# Altium footprint library QFN50P300X300X100-17T180X180L.PcbLib: 1 footprints
Each footprint in its own frame and in the unit in brackets; x right, y up, seen from the top. Pads: shape width x height; smd on the part's side, far side on the other; paste and mask are expansions set on the pad; w line width, h text height; cw(c..) or ccw(c..) is an arc to the next point about the centre after c.
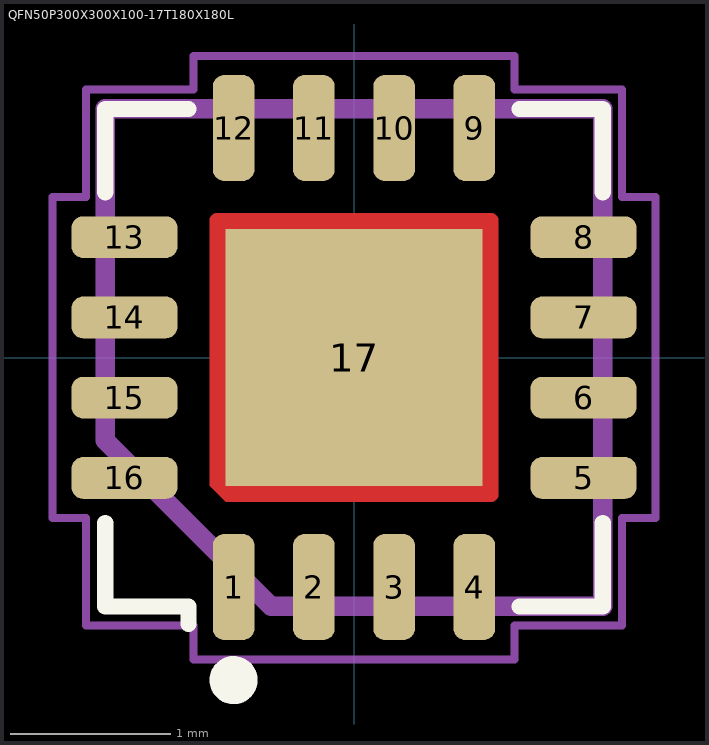
[diagram p0: the footprint, top view; thin cyan lines are the x and y axes]

## QFN50P300X300X100-17T180X180L [mm] "Quad Flat No-Lead (QFN with Tab), 0.50 mm pitch; square, 4 pin X 4 pin, 3.00 mm L X 3.00 mm W X 1.00 mm H body"
height 1
pads (17):
  rrect54% 0.26x0.66 smd: 1(-0.75,-1.43) 2(-0.25,-1.43) 3(0.25,-1.43) 4(0.75,-1.43) 9(0.75,1.43) 10(0.25,1.43) 11(-0.25,1.43) 12(-0.75,1.43)
  rrect54% 0.66x0.26 smd: 5(1.43,-0.75) 6(1.43,-0.25) 7(1.43,0.25) 8(1.43,0.75) 13(-1.43,0.75) 14(-1.43,0.25) 15(-1.43,-0.25) 16(-1.43,-0.75)
  rect 1.6x1.6 smd paste-1.6 mask+0: 17(0,0)
Top Layer:
  region: 0.9,0 0.9,-0.85 0.899,-0.858 0.898,-0.865 0.895,-0.873 0.891,-0.879 0.885,-0.885 0.879,-0.891 0.873,-0.895 0.865,-0.898 0.858,-0.899 -0.8,-0.9 -0.9,-0.8 -0.9,0.85 -0.899,0.858 -0.898,0.865 -0.895,0.873 -0.891,0.879 -0.885,0.885 -0.879,0.891 -0.873,0.895 -0.865,0.898 -0.858,0.899 0.85,0.9 0.858,0.899 0.865,0.898 0.873,0.895 0.879,0.891 0.885,0.885 0.891,0.879 0.895,0.873 0.898,0.865 0.899,0.858 0.9,0.85
Top Overlay:
  circle w0.15: c-0.75,-2.01 r0.075
  lines w0.1: -1.55,-1.03 -1.55,-1.55 -1.03,-1.55 -1.03,-1.66 ; -1.55,1.03 -1.55,1.55 -1.03,1.55 ; 1.03,-1.55 1.55,-1.55 1.55,-1.03 ; 1.03,1.55 1.55,1.55 1.55,1.03
Top Paste:
  region: -0.09,0.09 -0.73,0.09 -0.73,0.73 -0.09,0.73
  region: -0.09,-0.73 -0.73,-0.73 -0.73,-0.09 -0.09,-0.09
  region: 0.73,0.09 0.09,0.09 0.09,0.73 0.73,0.73
  region: 0.73,-0.73 0.09,-0.73 0.09,-0.09 0.73,-0.09
Top Solder:
  region: 0.9,0 0.9,-0.85 0.899,-0.858 0.898,-0.865 0.895,-0.873 0.891,-0.879 0.885,-0.885 0.879,-0.891 0.873,-0.895 0.865,-0.898 0.858,-0.899 -0.8,-0.9 -0.9,-0.8 -0.9,0.85 -0.899,0.858 -0.898,0.865 -0.895,0.873 -0.891,0.879 -0.885,0.885 -0.879,0.891 -0.873,0.895 -0.865,0.898 -0.858,0.899 0.85,0.9 0.858,0.899 0.865,0.898 0.873,0.895 0.879,0.891 0.885,0.885 0.891,0.879 0.895,0.873 0.898,0.865 0.899,0.858 0.9,0.85
Fab - Detail1, HDI1:
  lines w0.12: -1.55,-0.517 -1.55,1.55 1.55,1.55 1.55,-1.55 -0.517,-1.55 -1.55,-0.517
Courtyards/Models - Top:
  lines w0.05: -1.88,-1 -1.67,-1 -1.67,-1.67 -1,-1.67 -1,-1.88 1,-1.88 1,-1.67 1.67,-1.67 1.67,-1 1.88,-1 1.88,1 1.67,1 1.67,1.67 1,1.67 1,1.88 -1,1.88 -1,1.67 -1.67,1.67 -1.67,1 -1.88,1 -1.88,-1
3D body: height 0.92, standoff 0, extent -1.501,-1.499 1.499,1.501